# Altium footprint library HC-05.PcbLib: 1 footprints
Each footprint in its own frame and in the unit in brackets; x right, y up, seen from the top. Pads: shape width x height; smd on the part's side, far side on the other; paste and mask are expansions set on the pad; w line width, h text height; cw(c..) or ccw(c..) is an arc to the next point about the centre after c.
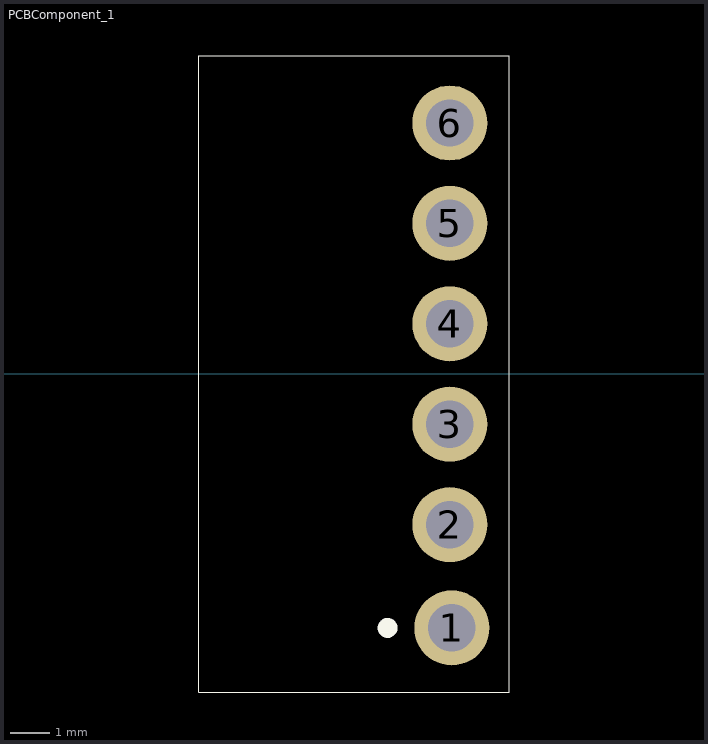
[diagram p0: the footprint, top view; thin cyan lines are the x and y axes]

## PCBComponent_1 [mm]
pads (6):
  round 1.9 hole 1.2 mask+0.102: 1(17.3,-6.425) 2(17.25,-3.81) 3(17.25,-1.27) 4(17.25,1.27) 5(17.25,3.81) 6(17.25,6.35)
Top Overlay:
  circle w0.254: c15.675,-6.425 r0.125
  lines w0.005: 10.9,-8.05 10.9,8.05 18.75,8.05 18.75,-8.05 10.9,-8.05
3D body "HC-05.SLDPRT": height 39.5, standoff -3.08, extent 11.025,-8.05 17.575,7.95